# EAGLE library part CON_6 (library EL_POTENCIA_LIBRERIA_VES2018)
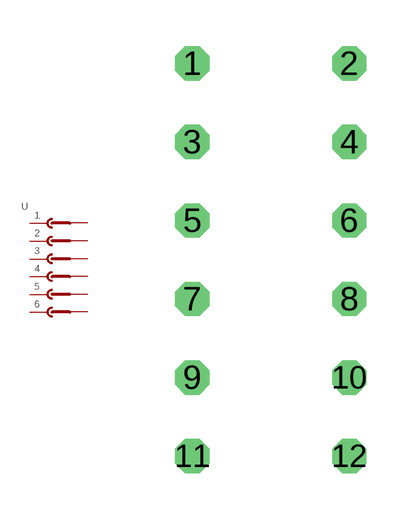
[diagram p12: symbol with the pads of CON_6; footprint CON_6]

Designator prefix -

## CON_6  [CON_6]
1  1
2  2
3  3
4  4
5  5
6  6
7  7
8  8
9  9
10  10
11  11
12  12

## Footprint CON_6 (pad centres in mm)
drill 0.6 octagon: 1 -2.54,0; 2 2.54,0; 3 -2.54,-2.54; 4 2.54,-2.54; 5 -2.54,-5.08; 6 2.54,-5.08; 7 -2.54,-7.62; 8 2.54,-7.62; 9 -2.54,-10.16; 10 2.54,-10.16; 11 -2.54,-12.7; 12 2.54,-12.7